# Altium footprint library PcbLib.PcbLib: 41 footprints (part 3 of 3)
Each footprint in its own frame and in the unit in brackets; x right, y up, seen from the top. Pads: shape width x height; smd on the part's side, far side on the other; paste and mask are expansions set on the pad; w line width, h text height; cw(c..) or ccw(c..) is an arc to the next point about the centre after c.
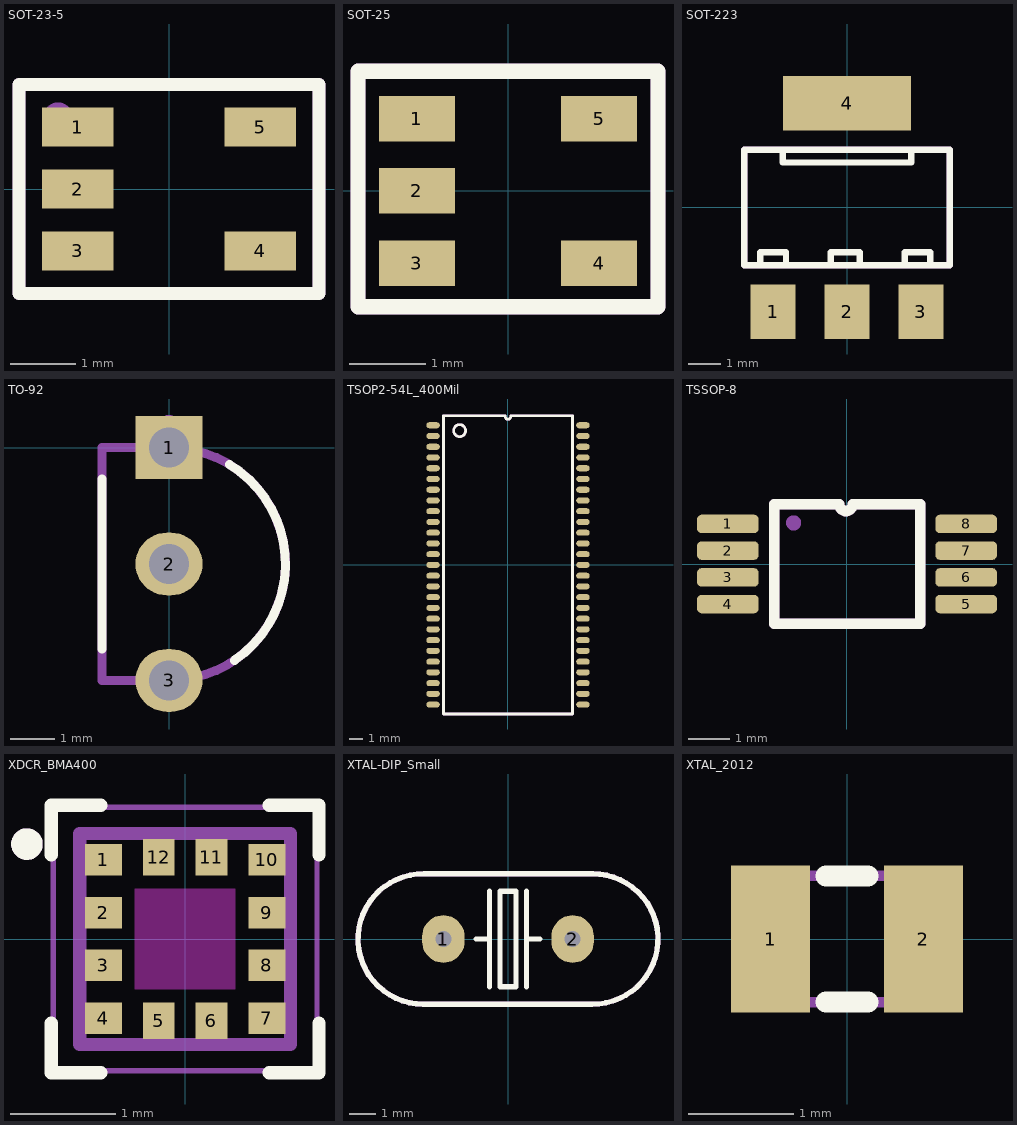
[diagram p2: the footprints below, top view; thin cyan lines are the x and y axes]

## SOT-23-5 [mm]
pads (5):
  rect 1.1x0.6 smd: 1(-1.4,0.95) 2(-1.4,0) 3(-1.4,-0.95) 4(1.4,-0.95) 5(1.4,0.95)
Top Overlay:
  lines w0.2: -2.3,-1.6 -2.3,1.6 2.3,1.6 2.3,-1.6 -2.3,-1.6
Mechanical 29:
  circle w0.254: c-1.7,1.1 r0.1
  lines w0.2: -2.3,-1.6 -2.3,1.6 2.3,1.6 2.3,-1.6 -2.3,-1.6
  text ".Designator" at -1.146,-0.513 h1
3D body "SOT-23-5.step": height 1.1, standoff 0, extent -1.225,-1.5 1.275,1.5

## SOT-25 [mm]
pads (5):
  rect 1x0.6 smd mask+0.08: 1(-1.2,0.95) 2(-1.2,0) 3(-1.2,-0.95) 4(1.2,-0.95) 5(1.2,0.95)
Top Overlay:
  lines w0.2: -0.088,1.575 1.975,1.575 1.975,-1.525 -1.975,-1.525 -1.975,1.575 0.088,1.575
Mechanical 29:
  circle w0.254: c-1.25,0.975 r0.09
  lines w0.2: -0.088,1.575 1.975,1.575 1.975,-1.525 -1.975,-1.525 -1.975,1.575 0.088,1.575
  text ".Designator" at -0.846,-0.538 h1
3D body "SOT-25.step": height 1.2, standoff 0, extent -1.35,-1.425 1.45,1.475

## SOT-223 [mm]
pads (4):
  rect 1.4x1.7 smd: 1(-2.3,-3.25) 2(0,-3.25) 3(2.3,-3.25)
  rect 4x1.7 smd: 4(0,3.25)
Top Overlay:
  lines w0.2: -2.7,-1.8 -2.7,-1.4 -1.9,-1.4 -1.9,-1.8 ; -2,1.8 -2,1.4 2,1.4 2,1.8 ; -0.5,-1.8 -0.5,-1.4 0.4,-1.4 0.4,-1.6 0.4,-1.8 ; 1.8,-1.8 1.8,-1.4 2.6,-1.4 2.6,-1.7 ; -3.2,-1.8 -3.2,1.8 3.2,1.8 3.2,-1.8 -3.2,-1.8
Mechanical 29:
  lines w0.2: -3.2,-1.8 3.2,-1.8 3.2,1.8 -3.2,1.8 -3.2,-1.8
  text ".Designator" at -1.3,-0.367 h1
3D body "User Library-sot-223.step": height 1.64, standoff -0.04, extent -3.25,-3.466 3.25,3.466

## TO-92 [mm]
pads (3):
  rect 1.5x1.4 hole 0.9: 1(0,0)
  oval 1.5x1.4 hole 0.9: 2(0,-2.6) 3(0,-5.2)
Top Overlay:
  lines w0.2: -1.5,-4.5 -1.5,-0.7 ; 1.352,-0.379 cw(c0,-2.6) 1.46,-4.751
Mechanical 29:
  circle w0.254: c0,0.5 r0.1
  lines w0.2: -1.5,-5.2 -1.5,0 0,0 cw(c0,-2.6) 0,-5.2 -1.5,-5.2
  text ".Designator" at -0.9,-3.067 h1
3D body "TO-92_Cut.STEP": height 10.67, standoff -1.12, extent -1.5,-5.45 2.625,0.3

## TSOP2-54L_400Mil [mm]
pads (54):
  oval 1x0.45 smd mask+0.05: 1(-5.58,10.4) 2(-5.58,9.6) 3(-5.58,8.8) 4(-5.58,8) 5(-5.58,7.2) 6(-5.58,6.4) 7(-5.58,5.6) 8(-5.58,4.8) 9(-5.58,4) 10(-5.58,3.2) 11(-5.58,2.4) 12(-5.58,1.6) 13(-5.58,0.8) 14(-5.58,0) 15(-5.58,-0.8) 16(-5.58,-1.6) 17(-5.58,-2.4) 18(-5.58,-3.2) 19(-5.58,-4) 20(-5.58,-4.8) 21(-5.58,-5.6) 22(-5.58,-6.4) 23(-5.58,-7.2) 24(-5.58,-8) 25(-5.58,-8.8) 26(-5.58,-9.6) 27(-5.58,-10.4) 28(5.58,-10.4) 29(5.58,-9.6) 30(5.58,-8.8) 31(5.58,-8) 32(5.58,-7.2) 33(5.58,-6.4) 34(5.58,-5.6) 35(5.58,-4.8) 36(5.58,-4) 37(5.58,-3.2) 38(5.58,-2.4) 39(5.58,-1.6) 40(5.58,-0.8) 41(5.58,0) 42(5.58,0.8) 43(5.58,1.6) 44(5.58,2.4) 45(5.58,3.2) 46(5.58,4) 47(5.58,4.8) 48(5.58,5.6) 49(5.58,6.4) 50(5.58,7.2) 51(5.58,8) 52(5.58,8.8) 53(5.58,9.6) 54(5.58,10.4)
Top Overlay:
  circle w0.2: c-3.6,10 r0.447
  lines w0.2: -0.203,11.039 ccw(c-0.003,11.039) 0.197,11.039 ; -0.2,11.1 -4.8,11.1 -4.8,-11.1 4.8,-11.1 4.8,11.1 0.2,11.1
Mechanical 29:
  circle w0.2: c-3.6,10 r0.447
  lines w0.2: -0.203,11.039 ccw(c-0.003,11.039) 0.197,11.039 ; -0.2,11.1 -4.8,11.1 -4.8,-11.1 4.8,-11.1 4.8,11.1 0.2,11.1
  text ".Designator" at 0.834,-1.7 h2
3D body "User Library-TSOP2-54.STEP": height 1.3, standoff -0.4, extent -5.879,-11.134 5.881,11.086

## TSSOP-8 [mm]
pads (8):
  rrect50% 1.5x0.45 smd mask+0.05: 1(-2.9,0.975) 2(-2.9,0.325) 3(-2.9,-0.325) 4(-2.9,-0.975) 5(2.9,-0.975) 6(2.9,-0.325) 7(2.9,0.325) 8(2.9,0.975)
Top Overlay:
  lines w0.254: 1.78,-1.45 1.315,-1.45 -1.775,-1.45 -1.775,1.45 -1.465,1.45 -1.34,1.45 -0.187,1.45 ccw(c-0.025,1.45) 0.138,1.45 1.29,1.45 1.78,1.45 ; 1.785,-1.446 1.785,1.454
Mechanical 29:
  circle w0.254: c-1.3,1 r0.056
  lines w0.254: 1.78,-1.45 1.315,-1.45 -1.775,-1.45 -1.775,1.45 -1.465,1.45 -1.34,1.45 -0.187,1.45 ccw(c-0.025,1.45) 0.138,1.45 1.29,1.45 1.78,1.45 ; 1.785,-1.446 1.785,1.454
  text ".Designator" at -0.846,-0.488 h1
3D body "PW8.step": height 1.2, standoff 0, extent -3.327,-1.549 3.277,1.549

## XDCR_BMA400 [mm]
pads (12):
  rect 0.35x0.3 smd paste-1 mask+0: 1(-0.775,0.75) 2(-0.775,0.25) 3(-0.775,-0.25) 4(-0.775,-0.75) 7(0.775,-0.75) 8(0.775,-0.25) 9(0.775,0.25) 10(0.775,0.75)
  rect 0.3x0.35 smd paste-1 mask+0: 5(-0.25,-0.775) 6(0.25,-0.775) 11(0.25,0.775) 12(-0.25,0.775)
Top Overlay:
  circle w0.15: c-1.5,0.9 r0.075
  lines w0.127: -1.27,-0.8 -1.27,-1.27 -0.8,-1.27 ; -1.27,0.8 -1.27,1.27 -0.8,1.27 ; 0.8,-1.27 1.27,-1.27 1.27,-0.8 ; 0.8,1.27 1.27,1.27 1.27,0.8
Top Paste:
  region: 0.375,0.625 0.125,0.625 0.125,0.925 0.375,0.925
  region: -0.125,0.625 -0.375,0.625 -0.375,0.925 -0.125,0.925
  region: 0.375,-0.925 0.125,-0.925 0.125,-0.625 0.375,-0.625
  region: -0.125,-0.925 -0.375,-0.925 -0.375,-0.625 -0.125,-0.625
  region: 0.925,-0.875 0.625,-0.875 0.625,-0.625 0.925,-0.625
  region: 0.925,-0.375 0.625,-0.375 0.625,-0.125 0.925,-0.125
  region: 0.925,0.125 0.625,0.125 0.625,0.375 0.925,0.375
  region: 0.925,0.625 0.625,0.625 0.625,0.875 0.925,0.875
  region: -0.625,0.625 -0.925,0.625 -0.925,0.875 -0.625,0.875
  region: -0.625,0.125 -0.925,0.125 -0.925,0.375 -0.625,0.375
  region: -0.625,-0.375 -0.925,-0.375 -0.925,-0.125 -0.625,-0.125
  region: -0.625,-0.875 -0.925,-0.875 -0.925,-0.625 -0.625,-0.625
Top Solder:
  region: 0.45,-1 0.05,-1 0.05,-0.55 0.45,-0.55
  region: -0.05,-1 -0.45,-1 -0.45,-0.55 -0.05,-0.55
  region: 0.45,0.55 0.05,0.55 0.05,1 0.45,1
  region: -0.05,0.55 -0.45,0.55 -0.45,1 -0.05,1
  region: 1,-0.95 0.55,-0.95 0.55,-0.55 1,-0.55
  region: 1,-0.45 0.55,-0.45 0.55,-0.05 1,-0.05
  region: 1,0.05 0.55,0.05 0.55,0.45 1,0.45
  region: 1,0.55 0.55,0.55 0.55,0.95 1,0.95
  region: -0.55,-0.95 -1,-0.95 -1,-0.55 -0.55,-0.55
  region: -0.55,-0.45 -1,-0.45 -1,-0.05 -0.55,-0.05
  region: -0.55,0.05 -1,0.05 -1,0.45 -0.55,0.45
  region: -0.55,0.55 -1,0.55 -1,0.95 -0.55,0.95
Keep-Out Layer:
  region: 0.475,-0.475 -0.475,-0.475 -0.475,0.475 0.475,0.475
  region: 0.475,-0.475 -0.475,-0.475 -0.475,0.475 0.475,0.475
Mechanical 29:
  circle w0.15: c-1.5,0.9 r0.075
  lines w0.127: -1,-1 -1,1 1,1 1,-1 -1,-1
  text ".Designator" at -0.689,-0.61 h1
Mechanical 15:
  lines w0.05: -1.25,-1.25 -1.25,1.25 1.25,1.25 1.25,-1.25 -1.25,-1.25
3D body "BMA400.STEP": height 1, standoff 0, extent -1,-1 1,1

## XTAL-DIP_Small [mm]
pads (2):
  oval 1.6x1.8 hole 0.6: 1(-2.44,0) 2(2.44,0)
Top Overlay:
  lines w0.2: -1.2,0 -0.7,0 ; -0.7,-1.8 -0.7,1.8 ; 0.7,-1.8 0.7,1.8 ; 0.7,0 1.2,0 ; 3.2,2.46 -3.159,2.46 ccw(c-3.2,0) -3.2,-2.46 3.159,-2.46 ccw(c3.2,0) 3.2,2.46 ; -0.3,-1.8 0.3,-1.8 0.3,1.8 0,1.8 -0.3,1.8 -0.3,-1.8
Mechanical 29:
  lines w0.2: 3.2,2.46 -3.159,2.46 ccw(c-3.2,0) -3.2,-2.46 3.159,-2.46 ccw(c3.2,0) 3.2,2.46
  text ".Designator" at -1.1,-0.367 h1
3D body "ABRACON_ABL-8.000MHZ-B2.STEP": height 3.55, standoff -2.02, extent -5.75,-2.5 5.75,2.5

## XTAL_2012 [mm]
pads (2):
  rect 0.75x1.4 smd: 1(-0.725,0) 2(0.725,0)
Top Overlay:
  lines w0.2: -0.2,-0.6 0.2,-0.6 ; -0.2,0.6 0.2,0.6
Mechanical 29:
  lines w0.1: -1,-0.5 cw(c-1,-0.6) -0.9,-0.6 0.9,-0.6 cw(c1,-0.6) 1,-0.5 1,0.5 cw(c1,0.6) 0.9,0.6 -0.9,0.6 cw(c-1,0.6) -1,0.5 -1,-0.5
  text ".Designator" at -0.3,-0.1 h0.3
3D body "User Library-ABS06.STEP": height 0.6, standoff 0, extent -1,-0.61 1,0.61